# Altium schematic symbol library CAP0603.SchLib: 1 symbol
Pins are listed as number, name and electrical type; pins without a type are passive.

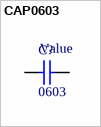
[diagram p0: symbol CAP0603]

## CAP0603
designator C?, comment 0603
0603 capacitor; Value: Value
footprint CAP0603R (capacitor 0603 reflow soldering)
simulation model CAP (Capacitor)
signal-integrity model Cap
pins: 1, 2